# Altium schematic symbol library RC0402JR-070RL.SchLib: 1 symbol
Pins are listed as number, name and electrical type; pins without a type are passive.

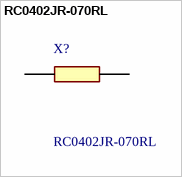
[diagram p0: symbol RC0402JR-070RL]

## RC0402JR-070RL
designator X?
0 Ohms Jumper Chip Resistor 0402 (1005 Metric) Moisture Resistant Thick Film; Manufacturer_Name: Yageo Group; Geometry.Height: 0.4mm; Mouser Part Number: 603-RC0402JR-070RL; Mouser Price/Stock: https://www.mouser.co.uk/ProductDetail/YAGEO/RC0402JR-070RL?qs=5Bml4Cp94iv7ykKkzPrwpQ%3D%3D; Manufacturer_Part_Number: RC0402JR-070RL; Datasheet Link: https://www.yageo.com/upload/media/product/products/datasheet/rchip/PYu-RC_Group_51_RoHS_L_12.pdf
footprint RESC1005X40N
pins: 1, 2